# Altium integrated library Infineon_Power_Smart_Low-Side_&_High-Side_Switches.IntLib: 238 symbols (part 1 of 14)
Pins are listed as number, name and electrical type; pins without a type are passive.

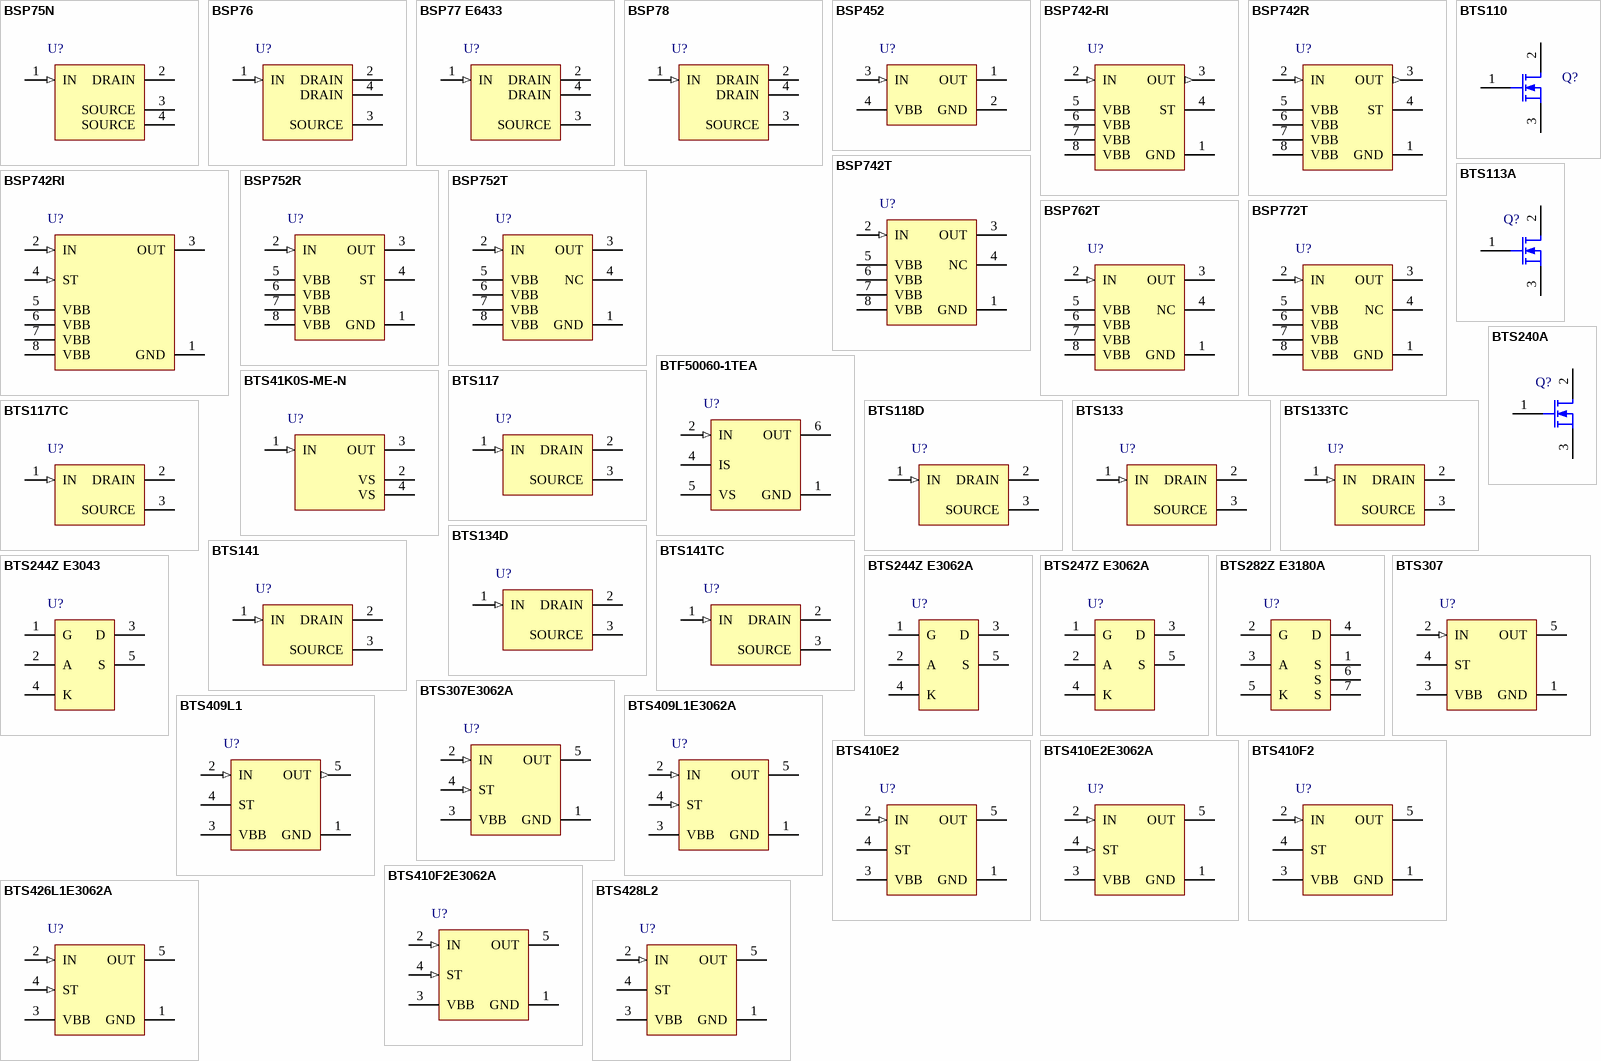
[diagram p0: symbols BSP75N to BTS428L2]

## BSP75N
designator U?
Smart Low-Side Power Switch HITFET, 60 V VDS, 0.7 A ID, -40 to 150 degC, PG-SOT223-SC-73, Reel, Green; Manufacturer: Infineon; PartNumber: BSP75N; Channels: 1; Green: TRUE; ID: 0.7 A; ID(lim) (min): 1 A; Ptot (max): 1.8 W; RDS (on)(max): 550 mOhm; ton (max): 20 us; VDS (max): 60 V; DatasheetVersion: Rev. 1.4; PackageVersion: Apr-08; PackageReference: PG-SOT223 (SC-73); PackageDescription: 4-Pin Small Outline Transistor Package, 6.5 x 3.5 mm Body, 2.3 mm Pitch; Supplier 1: Mouser; Supplier Part Number 1: 726-BSP75N; Supplier 2: Newark; Supplier Part Number 2: 47W3340; Supplier 3: Farnell; Supplier Part Number 3: 2215518; Supplier 4: Digi-Key; Supplier Part Number 4: BSP75N TR-ND; Supplier 5: Digi-Key; Supplier Part Number 5: BSP75N CT-ND; Supplier 6: Digi-Key; Supplier Part Number 6: BSP75N DKR-ND; Group: HITFET; Halogen-free: FALSE; ID(nom): 0.7 A; Packing: Reel; toff (max): 20 us; Mounting Technology: Surface Mount; ComponentLink1Description: Manufacturer URL; ComponentLink1URL: http://www.infineon.com/; ComponentLink2Description: Datasheet; ComponentLink2URL: http://www.infineon.com/dgdl/BSP75N_DS_14.pdf?folderId=db3a3043163797a6011667aa084c0e01&fileId=db3a30431ed1d7b2011f471f5a0256d1&location=en.Products.Automotive_ICs.Smart_High-_and_Low-Side_Switches.HITFET___TEMPFET__-_Smart_Low-Side_Switches.DATASHEET.BSP75N_DS_14.pdf; ComponentLink3Description: Package Specification; ComponentLink3URL: http://www.infineon.com/dgdl/SOT223-Package_Overview.pdf?folderId=db3a30431936bc4b0119530470b03c3d&fileId=db3a30431936bc4b0119531d40b93c5c
footprint INF-PG-SOT223_SC-73_N (SOT223, 4-Leads, Body 6.5x3.5mm, Pitch 2.3mm, IPC Medium Density)
footprint INF-PG-SOT223_SC-73_L (SOT223, 4-Leads, Body 6.5x3.5mm, Pitch 2.3mm, IPC High Density)
footprint INF-PG-SOT223_SC-73_M (SOT223, 4-Leads, Body 6.5x3.5mm, Pitch 2.3mm, IPC Low Density)
pins: 1 IN (in) "Input;activates output and supplies internal logic", 2 DRAIN (power) "Output to the load", 3 SOURCE (power) "Ground;pin3 and TAB are internally connected", 4 SOURCE (power) "Ground;pin3 and TAB are internally connected"

## BSP76
designator U?
Smart Low-Side Power Switch HITFET, 42 V VDS, 1.4 A ID, -40 to 150 degC, PG-SOT223-SC-73, Reel, Green; Manufacturer: Infineon; PartNumber: BSP76; Channels: 1; Green: TRUE; ID: 1.4 A; ID(lim) (min): 5 A; Ptot (max): 3.8 W; RDS (on)(max): 200 mOhm; ton (max): 100 us; VDS (max): 42 V; DatasheetVersion: Rev. 1.3; PackageVersion: Apr-08; PackageReference: PG-SOT223 (SC-73); PackageDescription: 4-Pin Small Outline Transistor Package, 6.5 x 3.5 mm Body, 2.3 mm Pitch; Group: HITFET; Halogen-free: FALSE; ID(nom): 1.4 A; Packing: Reel; toff (max): 100 us; Mounting Technology: Surface Mount; ComponentLink1Description: Manufacturer URL; ComponentLink1URL: http://www.infineon.com/; ComponentLink2Description: Datasheet; ComponentLink2URL: http://www.infineon.com/dgdl/BSP76_DS_13.pdf?folderId=db3a3043163797a6011667aa084c0e01&fileId=db3a3043271faefd01274d00e2695d45&location=en.Products.Automotive_ICs.Smart_High-_and_Low-Side_Switches.HITFET___TEMPFET__-_Smart_Low-Side_Switches.DATASHEET.BSP76_DS_13.pdf; ComponentLink3Description: Package Specification; ComponentLink3URL: http://www.infineon.com/dgdl/SOT223-Package_Overview.pdf?folderId=db3a30431936bc4b0119530470b03c3d&fileId=db3a30431936bc4b0119531d40b93c5c
footprint INF-PG-SOT223_SC-73_N (SOT223, 4-Leads, Body 6.5x3.5mm, Pitch 2.3mm, IPC Medium Density)
footprint INF-PG-SOT223_SC-73_L (SOT223, 4-Leads, Body 6.5x3.5mm, Pitch 2.3mm, IPC High Density)
footprint INF-PG-SOT223_SC-73_M (SOT223, 4-Leads, Body 6.5x3.5mm, Pitch 2.3mm, IPC Low Density)
pins: 1 IN (in), 2 DRAIN (power), 3 SOURCE (power), 4 DRAIN (power)

## BSP77 E6433
designator U?
Smart Low-Side Power Switch HITFET, 42 V VDS, 2.17 A ID, -40 to 150 degC, PG-SOT223 (SC-73), Reel, Green; Manufacturer: Infineon; PartNumber: BSP77 E6433; Channels: 1; Green: TRUE; ID: 2.17 A; ID(lim) (min): 10 A; Ptot (max): 3.8 W; RDS (on)(max): 100 mOhm; ton (max): 100 us; VDS (max): 42 V; DatasheetVersion: Rev. 1.3; PackageVersion: Apr-08; PackageReference: PG-SOT223 (SC-73); PackageDescription: 4-Pin Small Outline Transistor Package, 6.5 x 3.5 mm Body, 2.3 mm Pitch; Supplier 1: Mouser; Supplier Part Number 1: 726-BSP77E6433; Supplier 2: Newark; Supplier Part Number 2: 47W3345; Supplier 3: Farnell; Supplier Part Number 3: 2215505; Supplier 4: Digi-Key; Supplier Part Number 4: BSP77 E6433TR-ND; Supplier 5: Digi-Key; Supplier Part Number 5: BSP77 E6433CT-ND; Supplier 6: Digi-Key; Supplier Part Number 6: BSP77 E6433DKR-ND; Group: HITFET; Halogen-free: FALSE; ID(nom): 2.17 A; Packing: Reel; toff (max): 100 us; Mounting Technology: Surface Mount; ComponentLink1Description: Manufacturer URL; ComponentLink1URL: http://www.infineon.com/; ComponentLink2Description: Datasheet; ComponentLink2URL: http://www.infineon.com/dgdl/BSP77_DS_13.pdf?folderId=db3a3043163797a6011667aa084c0e01&fileId=db3a3043271faefd01274cff04045d40&location=en.Products.Automotive_ICs.Smart_High-_and_Low-Side_Switches.HITFET___TEMPFET__-_Smart_Low-Side_Switches.DATASHEET.BSP77_DS_13.pdf; ComponentLink3Description: Package Specification; ComponentLink3URL: http://www.infineon.com/dgdl/SOT223-Package_Overview.pdf?folderId=db3a30431936bc4b0119530470b03c3d&fileId=db3a30431936bc4b0119531d40b93c5c
footprint INF-PG-SOT223_SC-73_N (SOT223, 4-Leads, Body 6.5x3.5mm, Pitch 2.3mm, IPC Medium Density)
footprint INF-PG-SOT223_SC-73_L (SOT223, 4-Leads, Body 6.5x3.5mm, Pitch 2.3mm, IPC High Density)
footprint INF-PG-SOT223_SC-73_M (SOT223, 4-Leads, Body 6.5x3.5mm, Pitch 2.3mm, IPC Low Density)
pins: 1 IN (in), 2 DRAIN (power), 3 SOURCE (power), 4 DRAIN (power)

## BSP78
designator U?
Smart Low-Side Power Switch HITFET, 42 V VDS, 3 A ID, -40 to 150 degC, PG-SOT223 (SC-73), Reel, Green; Manufacturer: Infineon; PartNumber: BSP78; Channels: 1; Green: TRUE; ID: 3 A; ID(lim) (min): 18 A; Ptot (max): 3.8 W; RDS (on)(max): 50 mOhm; ton (max): 100 us; VDS (max): 42 V; DatasheetVersion: Rev. 1.3; PackageVersion: Apr-08; PackageReference: PG-SOT223 (SC-73); PackageDescription: 4-Pin Small Outline Transistor Package, 6.5 x 3.5 mm Body, 2.3 mm Pitch; Supplier 1: Mouser; Supplier Part Number 1: 726-BSP78; Supplier 2: Newark; Supplier Part Number 2: 47W3347; Supplier 3: Farnell; Supplier Part Number 3: 2215495; Supplier 4: Digi-Key; Supplier Part Number 4: BSP78TR-ND; Supplier 5: Digi-Key; Supplier Part Number 5: BSP78CT-ND; Supplier 6: Digi-Key; Supplier Part Number 6: BSP78DKR-ND; Group: HITFET; Halogen-free: FALSE; ID(nom): 3 A; Packing: Reel; toff (max): 100 us; Mounting Technology: Surface Mount; ComponentLink1Description: Manufacturer URL; ComponentLink1URL: http://www.infineon.com/; ComponentLink2Description: Datasheet; ComponentLink2URL: http://www.infineon.com/dgdl/BSP78_DS_13.pdf?folderId=db3a3043163797a6011667aa084c0e01&fileId=db3a3043271faefd01274cfb41f85d36&location=en.Products.Automotive_ICs.Smart_High-_and_Low-Side_Switches.HITFET___TEMPFET__-_Smart_Low-Side_Switches.DATASHEET.BSP78_DS_13.pdf; ComponentLink3Description: Package Specification; ComponentLink3URL: http://www.infineon.com/dgdl/SOT223-Package_Overview.pdf?folderId=db3a30431936bc4b0119530470b03c3d&fileId=db3a30431936bc4b0119531d40b93c5c
footprint INF-PG-SOT223_SC-73_N (SOT223, 4-Leads, Body 6.5x3.5mm, Pitch 2.3mm, IPC Medium Density)
footprint INF-PG-SOT223_SC-73_L (SOT223, 4-Leads, Body 6.5x3.5mm, Pitch 2.3mm, IPC High Density)
footprint INF-PG-SOT223_SC-73_M (SOT223, 4-Leads, Body 6.5x3.5mm, Pitch 2.3mm, IPC Low Density)
pins: 1 IN (in), 2 DRAIN (power), 3 SOURCE (power), 4 DRAIN (power)

## BSP452
designator U?
Smart High-Side Power Switch, 1 Channel, 0.7 A Load Current, -40 to 150 degC, PG-SOT223_SC-73, Reel, Green; Manufacturer: Infineon; PartNumber: BSP452; Channels: 1; Green: TRUE; Group: Automotive Qualified; Load Current (typ): 0.7 A; Ptot (max): 1.8 W; Recommended Operating Voltage Max.: 34 V; Recommended Operating Voltage Min.: 5 V; RON @ 25degreesC: 200 mOhm; RON(max) @ 150degreesC: 400 mOhm; toff (max): 150 us; ton (max): 100 us; DatasheetVersion: V1.0; PackageVersion: May-07; PackageReference: PG-SOT-223; PackageDescription: 4-Pin Small Outline Transistor Package, 3.5 x 6.5 mm Body, 2.3 mm Pitch; Supplier 1: Mouser; Supplier Part Number 1: 726-BSP452; Supplier 2: Newark; Supplier Part Number 2: 47W3335; Supplier 3: Farnell; Supplier Part Number 3: 2215478; Supplier 4: Digi-Key; Supplier Part Number 4: BSP452TR-ND; Supplier 5: Digi-Key; Supplier Part Number 5: BSP452CT-ND; Supplier 6: Digi-Key; Supplier Part Number 6: BSP452DKR-ND; Halogen-free: FALSE; Packing: Reel; Mounting Technology: Surface Mount; ComponentLink1Description: Manufacturer URL; ComponentLink1URL: http://www.infineon.com/; ComponentLink2Description: Datasheet; ComponentLink2URL: http://www.infineon.com/dgdl/BSP452.pdf?folderId=db3a304314dca389011537739e37155f&fileId=db3a30431b3e89eb011b7eac4d321531&location=en.Products.Automotive_ICs.Smart_High-_and_Low-Side_Switches.PROFET__-_Smart_High_Side_Switches.DATASHEET.BSP452.pdf; ComponentLink3Description: Package Specification; ComponentLink3URL: http://www.infineon.com/dgdl/BSP452.pdf?folderId=db3a304314dca389011537739e37155f&fileId=db3a30431b3e89eb011b7eac4d321531&sId=db3a30433da6ece5013da707896d001d
footprint INF-PG-SOT-223_N (SOT223, 4-Leads, Body 6.5x3.5mm, Pitch 2.3mm, IPC Medium Density)
footprint INF-PG-SOT-223_L (SOT223, 4-Leads, Body 6.5x3.5mm, Pitch 2.3mm, IPC High Density)
footprint INF-PG-SOT-223_M (SOT223, 4-Leads, Body 6.5x3.5mm, Pitch 2.3mm, IPC Low Density)
pins: 1 OUT (power) "Output to the load", 2 GND (power) "Logic ground", 3 IN (in) "Input, activates the power switch in case of logical high signal", 4 VBB (power) "Positive power supply voltage"

## BSP742-RI
designator U?
Smart High-Side-Switch, 1 Channel, 1.2 A Load Current, -40 to 150 degC, PG-DSO-8-24, Reel, Green; Manufacturer: Infineon; PartNumber: BSP742-RI; Channels: 1; Green: TRUE; Group: Automotive Qualified; Load Current (typ): 1.1 A; Ptot (max): 1.5 W; Recommended Operating Voltage Max.: 34 V; Recommended Operating Voltage Min.: 5 V; RON @ 25degreesC: 350 mOhm; RON(max) @ 150degreesC: 700 mOhm; toff (max): 170 us; ton (max): 140 us; DatasheetVersion: V1.1; PackageVersion: May-07; PackageReference: PG-DSO-8-24; PackageDescription: 8-Pin Plastic (Green) Dual Small Outline Package, 4.9 x 3.9 mm Body, 1.27 mm Pitch; Halogen-free: TRUE; Packing: Reel; Mounting Technology: Surface Mount; ComponentLink1Description: Manufacturer URL; ComponentLink1URL: http://www.infineon.com/; ComponentLink2Description: Datasheet; ComponentLink2URL: http://www.infineon.com/dgdl/BSP742RI.pdf?folderId=db3a304314dca389011537739e37155f&fileId=db3a304316f112290116f22466b271a6&location=en.Products.Automotive_ICs.Smart_High-_and_Low-Side_Switches.PROFET__-_Smart_High_Side_Switches.DATASHEET.BSP742RI.pdf; ComponentLink3Description: Package Specification; ComponentLink3URL: http://www.infineon.com/dgdl/BSP742RI.pdf?folderId=db3a304314dca389011537739e37155f&fileId=db3a304316f112290116f22466b271a6&sId=db3a30433d68e984013d83055b4a7981
footprint INF-PG-DSO-8-24_N (SOP, 8-Leads, Body 4.9x3.9mm, Pitch 1.27mm, IPC Medium Density)
footprint INF-PG-DSO-8-24_L (SOP, 8-Leads, Body 4.9x3.9mm, Pitch 1.27mm, IPC High Density)
footprint INF-PG-DSO-8-24_M (SOP, 8-Leads, Body 4.9x3.9mm, Pitch 1.27mm, IPC Low Density)
pins: 1 GND (power) "Logic ground", 2 IN (in) "Input, activates the power switch in case of logic high signal", 3 OUT (out) "Output to the load", 4 ST (oc) "Diagnostic feedback", 5 VBB (power) "Positive power supply voltage", 6 VBB (power) "Positive power supply voltage", 7 VBB (power) "Positive power supply voltage", 8 VBB (power) "Positive power supply voltage"

## BSP742R
designator U?
Smart High-Side Power Switch, 1 Channel, 1.1 A Load Current, -40 to 150 degC, PG-DSO-8-24, Reel, Green; Manufacturer: Infineon; PartNumber: BSP742R; Channels: 1; Green: TRUE; Group: Automotive Qualified; Load Current (typ): 1.1 A; Ptot (max): 1.5 W; Recommended Operating Voltage Max.: 34 V; Recommended Operating Voltage Min.: 5 V; RON @ 25degreesC: 350 mOhm; RON(max) @ 150degreesC: 700 mOhm; toff (max): 170 us; ton (max): 140 us; DatasheetVersion: V1.3; PackageVersion: May-07; PackageReference: PG-DSO-8-24; PackageDescription: 8-Pin Plastic (Green) Dual Small Outline Package, 4.9 x 3.9 mm Body, 1.27 mm Pitch; Supplier 1: Mouser; Supplier Part Number 1: 726-BSP742R; Supplier 2: Newark; Supplier Part Number 2: 47W3337; Supplier 3: Farnell; Supplier Part Number 3: 2215511; Supplier 4: Digi-Key; Supplier Part Number 4: BSP742RTR-ND; Supplier 5: Digi-Key; Supplier Part Number 5: BSP742RCT-ND; Supplier 6: Digi-Key; Supplier Part Number 6: BSP742RDKR-ND; Halogen-free: TRUE; Packing: Reel; Mounting Technology: Surface Mount; ComponentLink1Description: Manufacturer URL; ComponentLink1URL: http://www.infineon.com/; ComponentLink2Description: Datasheet; ComponentLink2URL: http://www.infineon.com/dgdl/BSP742R_GDS_13.pdf?folderId=db3a304314dca389011537739e37155f&fileId=db3a304320d39d5901210fe1d994367c&location=en.Products.Automotive_ICs.Smart_High-_and_Low-Side_Switches.PROFET__-_Smart_High_Side_Switches.DATASHEET.BSP742R_GDS_13.pdf; ComponentLink3Description: Package Specification; ComponentLink3URL: http://www.infineon.com/dgdl/BSP742RI.pdf?folderId=db3a304314dca389011537739e37155f&fileId=db3a304316f112290116f22466b271a6&sId=db3a30433d68e984013d83055b4a7981
footprint INF-PG-DSO-8-24_N (SOP, 8-Leads, Body 4.9x3.9mm, Pitch 1.27mm, IPC Medium Density)
footprint INF-PG-DSO-8-24_L (SOP, 8-Leads, Body 4.9x3.9mm, Pitch 1.27mm, IPC High Density)
footprint INF-PG-DSO-8-24_M (SOP, 8-Leads, Body 4.9x3.9mm, Pitch 1.27mm, IPC Low Density)
pins: 1 GND (power) "Logic ground", 2 IN (in) "Input, activates the power switch in case of logic high signal", 3 OUT (out) "Output to the load", 4 ST (oc) "Diagnostic feedback", 5 VBB (power) "Positive power supply voltage", 6 VBB (power) "Positive power supply voltage", 7 VBB (power) "Positive power supply voltage", 8 VBB (power) "Positive power supply voltage"

## BSP742RI
designator U?
Smart High-Side Power Switch, 5 to 34 V, -40 to 150 degC, PG-DSO-8, Reel, Green; Manufacturer: Infineon; PartNumber: BSP742RI; Channels: 1; Diagnostic: Digital; Green: TRUE; IL (nom)min - all channels active: 0.4 A; IL (SCp): 1.2 A; Ptot (max): 1.5 W; Recommended Operating Voltage Max.: 34 V; Recommended Operating Voltage Min.: 5 V; RON (max) @ Tj: 150degreesC=700 mOhm; RON @ Tj: 25degreesC=350 mOhm; toff (max): 170 us; ton (max): 140 us; DatasheetVersion: Rev. 1.1; PackageVersion: May-07; PackageReference: PG-DSO-8-24; PackageDescription: 8-Pin Plastic (Green) Dual Small Outline Package, 4.9 x 3.9 mm Body, 1.27 mm Pitch; Supplier 1: Digi-Key; Supplier Part Number 1: BSP742RITR-ND; Supplier 2: Digi-Key; Supplier Part Number 2: BSP742RICT-ND; Supplier 3: Digi-Key; Supplier Part Number 3: BSP742RIDKR-ND; Supplier 4: Farnell; Supplier Part Number 4: 2215513; Supplier 5: Newark; Supplier Part Number 5: 47W3338; Supplier 6: Mouser; Supplier Part Number 6: 726-BSP742RI; Halogen-free: TRUE; IL (nom)min - one channel active: 0.4 A; Mounting: SMT; Packing: Reel; Mounting Technology: Surface Mount; ComponentLink1Description: Manufacturer URL; ComponentLink1URL: http://www.infineon.com/; ComponentLink2Description: Datasheet; ComponentLink2URL: http://www.infineon.com/dgdl/BSP742RI.pdf?folderId=db3a304314dca389011537739e37155f&fileId=db3a304316f112290116f22466b271a6; ComponentLink3Description: Package Specification; ComponentLink3URL: http://www.infineon.com/cms/packages/SMD_-_Surface_Mounted_Devices/P-PG-DSO/P-PG-DSO-08-03x_-6x_-7x_-8x_-10x_-13x_-15x_-18x_-19x_-20x_-23.html?__locale=en
footprint INF-PG-DSO-8-24_N (SOP, 8-Leads, Body 4.9x3.9mm, Pitch 1.27mm, IPC Medium Density)
footprint INF-PG-DSO-8-24_L (SOP, 8-Leads, Body 4.9x3.9mm, Pitch 1.27mm, IPC High Density)
footprint INF-PG-DSO-8-24_M (SOP, 8-Leads, Body 4.9x3.9mm, Pitch 1.27mm, IPC Low Density)
pins: 1 GND (power) "Logic ground", 2 IN (in) "Input, activates the power switch in case of logic high sianal", 3 OUT (power) "Output to the load", 4 ST (in) "Diagnostic feedback", 5 VBB (power) "Positive power supply voltage", 6 VBB (power) "Positive power supply voltage", 7 VBB (power) "Positive power supply voltage", 8 VBB (power) "Positive power supply voltage"

## BSP742T
designator U?
Smart High-Side Power Switch, 1 Channel, 1.1 A Load Current, -40 to 150 degC, PG-DSO-8-24, Reel, Green; Manufacturer: Infineon; PartNumber: BSP742T; Channels: 1; Green: TRUE; Group: Automotive Qualified; Load Current (typ): 1.1 A; Ptot (max): 1.5 W; Recommended Operating Voltage Max.: 34 V; Recommended Operating Voltage Min.: 5 V; RON @ 25degreesC: 350 mOhm; RON(max) @ 150degreesC: 700 mOhm; toff (max): 170 us; ton (max): 140 us; DatasheetVersion: V1.1; PackageVersion: May-07; PackageReference: PG-DSO-8-24; PackageDescription: 8-Pin Plastic (Green) Dual Small Outline Package, 4.9 x 3.9 mm Body, 1.27 mm Pitch; Supplier 1: Mouser; Supplier Part Number 1: 726-BSP742T; Supplier 2: Newark; Supplier Part Number 2: 47W3339; Supplier 3: Farnell; Supplier Part Number 3: 2215516; Supplier 4: Digi-Key; Supplier Part Number 4: BSP742TINTR-ND; Supplier 5: Digi-Key; Supplier Part Number 5: BSP742TINCT-ND; Supplier 6: Digi-Key; Supplier Part Number 6: BSP742TINDKR-ND; Halogen-free: TRUE; Packing: Reel; Mounting Technology: Surface Mount; ComponentLink1Description: Manufacturer URL; ComponentLink1URL: http://www.infineon.com/; ComponentLink2Description: Datasheet; ComponentLink2URL: http://www.infineon.com/dgdl/BSP742T.pdf?folderId=db3a304412b407950112b408e8c90004&fileId=db3a30431689f4420116d2efc3000bf7&location=en.Products.Automotive_ICs.Smart_High-_and_Low-Side_Switches.PROFET__-_Smart_High_Side_Switches.DATASHEET.BSP742T.pdf; ComponentLink3Description: Package Specification; ComponentLink3URL: http://www.infineon.com/dgdl/BSP742RI.pdf?folderId=db3a304314dca389011537739e37155f&fileId=db3a304316f112290116f22466b271a6&sId=db3a30433d68e984013d83055b4a7981
footprint INF-PG-DSO-8-24_N (SOP, 8-Leads, Body 4.9x3.9mm, Pitch 1.27mm, IPC Medium Density)
footprint INF-PG-DSO-8-24_L (SOP, 8-Leads, Body 4.9x3.9mm, Pitch 1.27mm, IPC High Density)
footprint INF-PG-DSO-8-24_M (SOP, 8-Leads, Body 4.9x3.9mm, Pitch 1.27mm, IPC Low Density)
pins: 1 GND (power) "Logic ground", 2 IN (in) "Input, activates the power switch in case of logic high signal.", 3 OUT (power) "Output to the load.", 4 NC "Not connected.", 5 VBB (power) "Positive power supply voltage.", 6 VBB (power) "Positive power supply voltage.", 7 VBB (power) "Positive power supply voltage.", 8 VBB (power) "Positive power supply voltage."

## BSP752R
designator U?
Smart High-Side Power Switch, 1 Channel, 1.3 A Load Current, -40 to 150 degC, PG-DSO-8-24, Reel, Green; Manufacturer: Infineon; PartNumber: BSP752R; Channels: 1; Green: TRUE; Group: Automotive Qualified; Load Current (typ): 1.3 A; Ptot (max): 1.5 W; Recommended Operating Voltage Max.: 52 V; Recommended Operating Voltage Min.: 6 V; RON @ 25degreesC: 200 mOhm; RON(max) @ 150degreesC: 380 mOhm; toff (max): 200 us; ton (max): 180 us; DatasheetVersion: V1.1; PackageVersion: May-07; PackageReference: PG-DSO-8-24; PackageDescription: 8-Pin Plastic (Green) Dual Small Outline Package, 4.9 x 3.9 mm Body, 1.27 mm Pitch; Supplier 1: Mouser; Supplier Part Number 1: 726-BSP752R; Supplier 2: Newark; Supplier Part Number 2: 47W3341; Supplier 3: Farnell; Supplier Part Number 3: 2215502; Supplier 4: Digi-Key; Supplier Part Number 4: BSP752RINTR-ND; Supplier 5: Digi-Key; Supplier Part Number 5: BSP752RINCT-ND; Supplier 6: Digi-Key; Supplier Part Number 6: BSP752RINDKR-ND; Halogen-free: TRUE; Packing: Reel; Mounting Technology: Surface Mount; ComponentLink1Description: Manufacturer URL; ComponentLink1URL: http://www.infineon.com/; ComponentLink2Description: Datasheet; ComponentLink2URL: http://www.infineon.com/dgdl/BSP752R_GDS_11.pdf?folderId=db3a304314dca389011537739e37155f&fileId=db3a304316f112290116f233cbd271e9&location=en.Products.Automotive_ICs.Smart_High-_and_Low-Side_Switches.PROFET__-_Smart_High_Side_Switches.DATASHEET.BSP752R_GDS_11.pdf; ComponentLink3Description: Package Specification; ComponentLink3URL: http://www.infineon.com/dgdl/BSP742RI.pdf?folderId=db3a304314dca389011537739e37155f&fileId=db3a304316f112290116f22466b271a6&sId=db3a30433d68e984013d83055b4a7981
footprint INF-PG-DSO-8-24_N (SOP, 8-Leads, Body 4.9x3.9mm, Pitch 1.27mm, IPC Medium Density)
footprint INF-PG-DSO-8-24_L (SOP, 8-Leads, Body 4.9x3.9mm, Pitch 1.27mm, IPC High Density)
footprint INF-PG-DSO-8-24_M (SOP, 8-Leads, Body 4.9x3.9mm, Pitch 1.27mm, IPC Low Density)
pins: 1 GND (power) "Logic ground", 2 IN (in) "Input, activates the power switch in case of logic high signal.", 3 OUT (power) "Output to the load.", 4 ST (oc) "Diagnostic feedback.", 5 VBB (power) "Positive power supply voltage.", 6 VBB (power) "Positive power supply voltage.", 7 VBB (power) "Positive power supply voltage.", 8 VBB (power) "Positive power supply voltage."

## BSP752T
designator U?
Smart High-Side Power Switch, 1 Channel, 1.3 A Load Current, -40 to 150 degC, PG-DSO-8-24, Reel, Green; Manufacturer: Infineon; PartNumber: BSP752T; Channels: 1; Green: TRUE; Group: Automotive Qualified; Load Current (typ): 1.3 A; Ptot (max): 1.5 W; Recommended Operating Voltage Max.: 52 V; Recommended Operating Voltage Min.: 6 V; RON @ 25degreesC: 200 mOhm; RON(max) @ 150degreesC: 380 mOhm; toff (max): 200 us; ton (max): 180 us; DatasheetVersion: Rev. 1.1; PackageVersion: May-07; PackageReference: PG-DSO-8-24; PackageDescription: 8-Pin Plastic (Green) Dual Small Outline Package, 4.9 x 3.9 mm Body, 1.27 mm Pitch; Supplier 1: Mouser; Supplier Part Number 1: 726-BSP752T; Supplier 2: Newark; Supplier Part Number 2: 47W3342; Supplier 3: Farnell; Supplier Part Number 3: 2215508; Supplier 4: Digi-Key; Supplier Part Number 4: BSP752TTR-ND; Supplier 5: Digi-Key; Supplier Part Number 5: BSP752TCT-ND; Supplier 6: Digi-Key; Supplier Part Number 6: BSP752TDKR-ND; Halogen-free: TRUE; Packing: Reel; Mounting Technology: Surface Mount; ComponentLink1Description: Manufacturer URL; ComponentLink1URL: http://www.infineon.com/; ComponentLink2Description: Datasheet; ComponentLink2URL: http://www.infineon.com/dgdl/BSP752T.pdf?folderId=db3a304314dca389011537739e37155f&fileId=db3a304316f112290116f228776b71bf&location=en.Products.Automotive_ICs.Smart_High-_and_Low-Side_Switches.PROFET__-_Smart_High_Side_Switches.DATASHEET.BSP752T.pdf; ComponentLink3Description: Package Specification; ComponentLink3URL: http://www.infineon.com/dgdl/BSP742RI.pdf?folderId=db3a304314dca389011537739e37155f&fileId=db3a304316f112290116f22466b271a6&sId=db3a30433d68e984013d83055b4a7981
footprint INF-PG-DSO-8-24_N (SOP, 8-Leads, Body 4.9x3.9mm, Pitch 1.27mm, IPC Medium Density)
footprint INF-PG-DSO-8-24_L (SOP, 8-Leads, Body 4.9x3.9mm, Pitch 1.27mm, IPC High Density)
footprint INF-PG-DSO-8-24_M (SOP, 8-Leads, Body 4.9x3.9mm, Pitch 1.27mm, IPC Low Density)
pins: 1 GND (power) "Logic ground", 2 IN (in) "Input, activates the power switch in case of logic high signal.", 3 OUT (power) "Output to the load.", 4 NC "Not connected.", 5 VBB (power) "Positive power supply voltage.", 6 VBB (power) "Positive power supply voltage.", 7 VBB (power) "Positive power supply voltage.", 8 VBB (power) "Positive power supply voltage."

## BSP762T
designator U?
Smart Power High-Side-Switch, 1 Channel, 2.4 A Load Current, -40 to 150 degC, PG-DSO-8-24, Reel, Green; Manufacturer: Infineon; PartNumber: BSP762T; Channels: 1; Green: TRUE; Group: Automotive Qualified; Load Current (typ): 2.4 A; Ptot (max): 1.5 W; Recommended Operating Voltage Max.: 34 V; Recommended Operating Voltage Min.: 5 V; RON @ 25degreesC: 100 mOhm; RON(max) @ 150degreesC: 200 mOhm; toff (max): 230 us; ton (max): 170 us; DatasheetVersion: Rev. 1.1; PackageVersion: May-07; PackageReference: PG-DSO-8-24; PackageDescription: 8-Pin Plastic (Green) Dual Small Outline Package, 4.9 x 3.9 mm Body, 1.27 mm Pitch; Supplier 1: Mouser; Supplier Part Number 1: 726-BSP762TX; Supplier 2: Newark; Supplier Part Number 2: 47W3344; Supplier 3: Farnell; Supplier Part Number 3: 2215493; Supplier 4: Digi-Key; Supplier Part Number 4: BSP762TINTR-ND; Supplier 5: Digi-Key; Supplier Part Number 5: BSP762TINCT-ND; Supplier 6: Digi-Key; Supplier Part Number 6: BSP762TINDKR-ND; Halogen-free: TRUE; Packing: Reel; Mounting Technology: Surface Mount; ComponentLink1Description: Manufacturer URL; ComponentLink1URL: http://www.infineon.com/; ComponentLink2Description: Datasheet; ComponentLink2URL: http://www.infineon.com/dgdl/BSP762T.pdf?folderId=db3a304314dca389011537739e37155f&fileId=db3a30431b3e89eb011b7e914c4c14f4&location=en.Products.Automotive_ICs.Smart_High-_and_Low-Side_Switches.PROFET__-_Smart_High_Side_Switches.DATASHEET.BSP762T.pdf; ComponentLink3Description: Package Specification; ComponentLink3URL: http://www.infineon.com/dgdl/BSP742RI.pdf?folderId=db3a304314dca389011537739e37155f&fileId=db3a304316f112290116f22466b271a6&sId=db3a30433d68e984013d83055b4a7981
footprint INF-PG-DSO-8-24_N (SOP, 8-Leads, Body 4.9x3.9mm, Pitch 1.27mm, IPC Medium Density)
footprint INF-PG-DSO-8-24_L (SOP, 8-Leads, Body 4.9x3.9mm, Pitch 1.27mm, IPC High Density)
footprint INF-PG-DSO-8-24_M (SOP, 8-Leads, Body 4.9x3.9mm, Pitch 1.27mm, IPC Low Density)
pins: 1 GND (power) "Logic ground", 2 IN (in) "Input, activates the power switch in case of logic high signal.", 3 OUT (power) "Output to the load.", 4 NC "Not connected.", 5 VBB (power) "Positive power supply voltage.", 6 VBB (power) "Positive power supply voltage.", 7 VBB (power) "Positive power supply voltage.", 8 VBB (power) "Positive power supply voltage."

## BSP772T
designator U?
Smart Power High-Side-Switch, 1 Channel, 3.1 A Load Current, -40 to 150 degC, PG-DSO-8-24, Reel, Green; Manufacturer: Infineon; PartNumber: BSP772T; Channels: 1; Green: TRUE; Group: Automotive Qualified; Load Current (typ): 3.1 A; Ptot (max): 1.5 W; Recommended Operating Voltage Max.: 34 V; Recommended Operating Voltage Min.: 5 V; RON @ 25degreesC: 60 mOhm; RON(max) @ 150degreesC: 120 mOhm; toff (max): 230 us; ton (max): 180 us; DatasheetVersion: Rev. 1.1; PackageVersion: May-07; PackageReference: PG-DSO-8-24; PackageDescription: 8-Pin Plastic (Green) Dual Small Outline Package, 4.9 x 3.9 mm Body, 1.27 mm Pitch; Supplier 1: Mouser; Supplier Part Number 1: 726-BSP772T; Supplier 2: Newark; Supplier Part Number 2: 47W3346; Supplier 3: Farnell; Supplier Part Number 3: 2215486; Supplier 4: Digi-Key; Supplier Part Number 4: BSP772TINTR-ND; Supplier 5: Digi-Key; Supplier Part Number 5: BSP772TINCT-ND; Supplier 6: Digi-Key; Supplier Part Number 6: BSP772TINDKR-ND; Halogen-free: TRUE; Packing: Reel; Mounting Technology: Surface Mount; ComponentLink1Description: Manufacturer URL; ComponentLink1URL: http://www.infineon.com/; ComponentLink2Description: Datasheet; ComponentLink2URL: http://www.infineon.com/dgdl/BSP772T.pdf?folderId=db3a304314dca389011537739e37155f&fileId=db3a304316f112290116f2395afb71fc&location=en.Products.Automotive_ICs.Smart_High-_and_Low-Side_Switches.PROFET__-_Smart_High_Side_Switches.DATASHEET.BSP772T.pdf; ComponentLink3Description: Package Specification; ComponentLink3URL: http://www.infineon.com/dgdl/BSP742RI.pdf?folderId=db3a304314dca389011537739e37155f&fileId=db3a304316f112290116f22466b271a6&sId=db3a30433d68e984013d83055b4a7981
footprint INF-PG-DSO-8-24_N (SOP, 8-Leads, Body 4.9x3.9mm, Pitch 1.27mm, IPC Medium Density)
footprint INF-PG-DSO-8-24_L (SOP, 8-Leads, Body 4.9x3.9mm, Pitch 1.27mm, IPC High Density)
footprint INF-PG-DSO-8-24_M (SOP, 8-Leads, Body 4.9x3.9mm, Pitch 1.27mm, IPC Low Density)
pins: 1 GND (power) "Logic ground", 2 IN (in) "Input, activates the power switch in case of logic high signal.", 3 OUT (power) "Output to the load.", 4 NC "Not connected.", 5 VBB (power) "Positive power supply voltage.", 6 VBB (power) "Positive power supply voltage.", 7 VBB (power) "Positive power supply voltage.", 8 VBB (power) "Positive power supply voltage."

## BTF50060-1TEA
designator U?
Smart High-Side Power Switch, High PWM Frequencies, 1 Channel, 16.5 A Load Current, -40 to 150 degC, PG-TO252-5-11, Reel, Green; Manufacturer: Infineon; PartNumber: BTF50060-1TEA; Channels: 1; Green: TRUE; Group: Automotive Qualified; Load Current (typ): 16.5 A; Recommended Operating Voltage Max.: 28 V; Recommended Operating Voltage Min.: 4.7 V; RON @ 25degreesC: 6 mOhm; RON(max) @ 150degreesC: 12 mOhm; toff (max): 1.5 us; ton (max): 1 us; DatasheetVersion: Rev 1.2; PackageVersion: Sep-11; PackageReference: PG-TO252-5-11; PackageDescription: 5-Pin Plastic (Green) Transistor Single Outline Package, 6.5 x 6.12 mm Body, 1.14 mm Pitch; Supplier 1: Mouser; Supplier Part Number 1: 726-BTF50060-1TEA; Supplier 2: Digi-Key; Supplier Part Number 2: BTF50060-1TEA-ND; Halogen-free: TRUE; Packing: Reel; Mounting Technology: Surface Mount; ComponentLink1Description: Manufacturer URL; ComponentLink1URL: http://www.infineon.com/; ComponentLink2Description: Datasheet; ComponentLink2URL: http://www.infineon.com/dgdl/BTF50060-1TEA_DS_v12_2011-09-01.pdf?folderId=db3a304314dca389011537739e37155f&fileId=db3a30432ad629a6012b0a94d88d3f2e&location=en.Products.Automotive_ICs.Smart_High-_and_Low-Side_Switches.PROFET__-_Smart_High_Side_Switches.DATASHEET.BTF50060-1TEA_DS_v12_2011-09-01.pdf; ComponentLink3Description: Package Specification; ComponentLink3URL: http://www.infineon.com/dgdl/BTF50060-1TEA_DS_v12_2011-09-01.pdf?folderId=db3a304314dca389011537739e37155f&fileId=db3a30432ad629a6012b0a94d88d3f2e&sId=db3a30433db6f09f013dc356c9f93bd9
footprint INF-PG-TO252-5_BTF50060_N (DPAK, 5-Leads, Body 6.5x6.12mm, Pitch 1.14mm, IPC Medium Density)
footprint INF-PG-TO252-5_BTF50060_L (DPAK, 5-Leads, Body 6.5x6.12mm, Pitch 1.14mm, IPC High Density)
footprint INF-PG-TO252-5_BTF50060_M (DPAK, 5-Leads, Body 6.5x6.12mm, Pitch 1.14mm, IPC Low Density)
pins: 1 GND (power) "Ground; Ground connection for control chip.", 2 IN (in) "Input; Digital 3.3 V and 5 V compatible logic input; activates power switch if set to HIGH level; Includes internal pull-down resistor RIN.", 4 IS (hiz) "Sense; Provides analog sense current signal and defined fault signal.", 5 VS (power) "Supply Voltage; Positive Supply Voltage for Logic and Power Stage.", 6 OUT (power) "Output; Protected high side power output."

## BTS41K0S-ME-N
designator U?
Smart High-Side NMOS-Power Switch, 4.9 to 45 V, -40 to 150 degC, PG-SOT223, Reel, Green; Manufacturer: Infineon; PartNumber: BTS41K0S-ME-N; Channels: 1; Green: TRUE; IL (SCp): 0.9 A; Load Current (typ): 0.2 A; Packing: Tape and Reel; Ptot (max): 1.7 W; Recommended Operating Voltage Max.: 45 V; Recommended Operating Voltage Min.: 4.9 V; RON (max) @ Tj: 150degreesC=3,000 mOhm; RON @ Tj: 25degreesC=1500 mOhm; toff (max): 140 us; ton (max): 100 us; DatasheetVersion: Rev. 1.1; PackageVersion: Apr-08; PackageReference: PG-SOT223_SC-73; PackageDescription: 4-Pin Small Outline Transistor Package, 6.5 x 3.5 mm Body, 2.3 mm Pitch; Supplier 1: Digi-Key; Supplier Part Number 1: BTS41K0S-ME-NTR-ND; Supplier 2: Digi-Key; Supplier Part Number 2: BTS41K0S-ME-NCT-ND; Supplier 3: Digi-Key; Supplier Part Number 3: BTS41K0S-ME-NDKR-ND; Mounting: SMT; Mounting Technology: Surface Mount; ComponentLink1Description: Manufacturer URL; ComponentLink1URL: http://www.infineon.com/; ComponentLink2Description: Datasheet; ComponentLink2URL: http://www.infineon.com/dgdl/BTS41k0S-ME-N_20120508.pdf?folderId=db3a30431400ef68011421b54e2e0564&fileId=5546d461454603990145893b13b54306; ComponentLink3Description: Package Specification; ComponentLink3URL: http://www.infineon.com/dgdl/SOT223-Package_Overview.pdf?folderId=db3a30431936bc4b0119530470b03c3d&fileId=db3a30431936bc4b0119531d40b93c5c
footprint INF-PG-SOT223_SC-73_N (SOT223, 4-Leads, Body 6.5x3.5mm, Pitch 2.3mm, IPC Medium Density)
footprint INF-PG-SOT223_SC-73_L (SOT223, 4-Leads, Body 6.5x3.5mm, Pitch 2.3mm, IPC High Density)
footprint INF-PG-SOT223_SC-73_M (SOT223, 4-Leads, Body 6.5x3.5mm, Pitch 2.3mm, IPC Low Density)
pins: 1 IN (in) "Input, activates the power switch in case of connection to GND", 2 VS (power) "Supply voltage", 3 OUT (power) "Output to the load", 4 VS (power) "Supply voltage"

## BTS110
designator Q?
TEMPFET BTS 110, 100 V VDS, 1.75 A ID, -55 to 150 degC, PG-TO-220AB, Tube; Manufacturer: Infineon; PartNumber: BTS110; Channels: 1; Green: FALSE; ID: 10 A; ID(nom): 1.75 A; ISC (max): 37 A; Ptot (max): 40 W; toff (max): 0.16 us; ton (max): 0.1 us; VDS (max): 100 V; PackageVersion: Feb-04; PackageReference: PG-TO-220AB; PackageDescription: 3-Pin Plastic (Green) Transistor Single Outline Package, 9.9 x 9.2 mm Body, 2.54 mm Pitch; Supplier 1: Mouser; Supplier Part Number 1: 726-BTS110; Supplier 2: Digi-Key; Supplier Part Number 2: BTS110-ND; Group: TEMPFET; Halogen-free: FALSE; Packing: Tube; Mounting Technology: Through Hole; ComponentLink1Description: Manufacturer URL; ComponentLink1URL: http://www.infineon.com/; ComponentLink2Description: Datasheet; ComponentLink2URL: http://www.infineon.com/dgdl/bts110.pdf?folderId=db3a304412b407950112b43583c16310&fileId=db3a304412b407950112b43584326311&location=en.Products.Automotive_ICs.Smart_High-_and_Low-Side_Switches.HITFET___TEMPFET__-_Smart_Low-Side_Switches.DATASHEET.bts110.pdf; ComponentLink3Description: Package Specification; ComponentLink3URL: http://www.infineon.com/dgdl/bts110.pdf?folderId=db3a304412b407950112b43583c16310&fileId=db3a304412b407950112b43584326311&sId=db3a30443e3c704d013e4eb6657a2604
footprint INF-PG-TO-220AB (FM, 3-Leads, Body 9.9x4.4mm, Pitch 2.54mm)
pins: 1 G, 2 D, 3 S

## BTS113A
designator Q?
TEMPFET BTS 113 A, 60 V VDS, 2.2 A ID, -55 to 150 degC, PG-TO-220AB, Tube; Manufacturer: Infineon; Channels: 1; Green: FALSE; ID: 11.5 A; ID(nom): 2.2 A; ISC (max): 27 A; Ptot (max): 40 W; toff (max): 0.12 us; ton (max): 0.11 us; VDS (max): 60 V; PackageVersion: Feb-04; PackageReference: PG-TO-220AB; PackageDescription: 3-Pin Plastic (Green) Transistor Single Outline Package, 9.9 x 9.2 mm Body, 2.54 mm Pitch; Supplier 1: Mouser; Supplier Part Number 1: 726-BTS113A; Supplier 2: Digi-Key; Supplier Part Number 2: BTS113A-ND; Group: TEMPFET; Halogen-free: FALSE; Packing: Tube; Mounting Technology: Through Hole; PartNumber: BTS113A; ComponentLink1Description: Manufacturer URL; ComponentLink1URL: http://www.infineon.com/; ComponentLink2Description: Datasheet; ComponentLink2URL: http://www.infineon.com/dgdl/bts113a.pdf?folderId=db3a304412b407950112b43588b8631a&fileId=db3a304412b407950112b4358934631b&location=en.Products.Automotive_ICs.Smart_High-_and_Low-Side_Switches.HITFET___TEMPFET__-_Smart_Low-Side_Switches.DATASHEET.bts113a.pdf; ComponentLink3Description: Package Specification; ComponentLink3URL: http://www.infineon.com/dgdl/bts110.pdf?folderId=db3a304412b407950112b43583c16310&fileId=db3a304412b407950112b43584326311&sId=db3a30443e3c704d013e4eb6657a2604
footprint INF-PG-TO-220AB (FM, 3-Leads, Body 9.9x4.4mm, Pitch 2.54mm)
pins: 1 G, 2 D, 3 S

## BTS117
designator U?
Smart Low-Side Power Switch HITFET, 60 V VDS, 3.5 A ID, -40 to 150 degC, PG-TO220-3-1, Tube, Green; Manufacturer: Infineon; PartNumber: BTS117; Channels: 1; Green: TRUE; ID: 3.5 A; ID(lim) (min): 7 A; ISC (max): 25 A; Ptot (max): 50 W; RDS (on)(max): 100 mOhm; ton (max): 70 us; toff (max): 150 us; VDS (max): 60 V; DatasheetVersion: Rev. 1.4; PackageVersion: Jul-12; PackageReference: PG-TO220-3-1; PackageDescription: 3-Pin Plastic (Green) Transistor Single Outline Package, 10 x 9.25 mm Body, 2.54 mm Pitch; Supplier 1: Mouser; Supplier Part Number 1: 726-BTS117; Supplier 2: Digi-Key; Supplier Part Number 2: BTS117IN-ND; Group: HITFET; Halogen-free: FALSE; ID(nom): 3.5 A; Packing: Tube; Mounting Technology: Through Hole; ComponentLink1Description: Manufacturer URL; ComponentLink1URL: http://www.infineon.com/; ComponentLink2Description: Datasheet; ComponentLink2URL: http://www.infineon.com/dgdl/BTS117_DS_14.pdf?folderId=db3a30431400ef68011421b54e2e0564&fileId=db3a30433a747525013abff8302d549c&location=en.Products.Automotive_ICs.Smart_High-_and_Low-Side_Switches.HITFET___TEMPFET__-_Smart_Low-Side_Switches.DATASHEET.BTS117_DS_14.pdf; ComponentLink3Description: Package Specification; ComponentLink3URL: http://www.infineon.com/dgdl/BTS117_DS_14.pdf?folderId=db3a30431400ef68011421b54e2e0564&fileId=db3a30433a747525013abff8302d549c&location=en.Products.Automotive_ICs.Smart_High-_and_Low-Side_Switches.HITFET___TEMPFET__-_Smart_Low-Side_Switches.DATASHEET.BTS117_DS_14.pdf
footprint INF-PG-TO220-3-1 (FM, 3-Leads, Body 10x4.4mm, Pitch 2.54mm)
pins: 1 IN (in), 2 DRAIN (power), 3 SOURCE (power)

## BTS117TC
designator U?
Smart Low-Side Power Switch HITFET, 60 V VDS, 3.5 A ID, -40 to 150 degC, PG-TO263-3-2, Reel, Green; Manufacturer: Infineon; PartNumber: BTS117TC; Channels: 1; Green: TRUE; ID: 3.5 A; ID(lim) (min): 7 A; ISC (max): 25 A; Ptot (max): 50 mW; RDS (on)(max): 100 mOhm; ton (max): 70 us; toff (max): 150 us; VDS (max): 60 V; DatasheetVersion: Rev. 1.0; PackageVersion: Jul-09; PackageReference: PG-TO263-3-2; PackageDescription: 3-Pin Plastic (Green) Transistor Single Outline Package, 10 x 9.25 mm Body, 2.54 mm Pitch; Supplier 1: Mouser; Supplier Part Number 1: 726-BTS117TC; Supplier 2: Newark; Supplier Part Number 2: 78X4821; Supplier 3: Farnell; Supplier Part Number 3: 2432479; Supplier 4: Digi-Key; Supplier Part Number 4: BTS117TCTR-ND; Supplier 5: Digi-Key; Supplier Part Number 5: BTS117TCCT-ND; Supplier 6: Digi-Key; Supplier Part Number 6: BTS117TCDKR-ND; Group: HITFET; Halogen-free: FALSE; ID(nom): 3.5 A; Packing: Reel; Mounting Technology: Surface Mount; ComponentLink1Description: Manufacturer URL; ComponentLink1URL: http://www.infineon.com/; ComponentLink2Description: Datasheet; ComponentLink2URL: http://www.infineon.com/dgdl/BTS117TC_DS_10.pdf?folderId=db3a3043163797a6011667aa084c0e01&fileId=db3a3043242ebc9e01242f3d87500018&location=en.Products.Automotive_ICs.Smart_High-_and_Low-Side_Switches.HITFET___TEMPFET__-_Smart_Low-Side_Switches.DATASHEET.BTS117TC_DS_10.pdf; ComponentLink3Description: Package Specification; ComponentLink3URL: http://www.infineon.com/dgdl/BTS141TC_DS_10.pdf?folderId=db3a3043163797a6011667aa084c0e01&fileId=db3a3043242ebc9e01242f43f58b003e&location=en.Products.Automotive_ICs.Smart_High-_and_Low-Side_Switches.HITFET___TEMPFET__-_Smart_Low-Side_Switches.DATASHEET.BTS141TC_DS_10.pdf
footprint INF-PG-TO263-3-2_N (DPAK, 3-Leads, Body 10x9.25mm, Pitch 2.54mm, IPC Medium Density)
footprint INF-PG-TO263-3-2_L (DPAK, 3-Leads, Body 10x9.25mm, Pitch 2.54mm, IPC High Density)
footprint INF-PG-TO263-3-2_M (DPAK, 3-Leads, Body 10x9.25mm, Pitch 2.54mm, IPC Low Density)
pins: 1 IN (in), 2 DRAIN (power), 3 SOURCE (power)

## BTS118D
designator U?
Smart Low-Side Power Switch Power HITFET, 42 V VDS, 2.4 A ID, -40 to 150 degC, PG-TO252-3-11, Reel, Green; Manufacturer: Infineon; PartNumber: BTS118D; Channels: 1; Green: TRUE; ID: 2.4 A; ID(lim) (min): 10 A; Ptot (max): 21 W; RDS (on)(max): 100 mOhm; ton (max): 100 us; VDS (max): 42 V; DatasheetVersion: Rev. 1.3; PackageVersion: Dec-06; PackageReference: PG-TO252-3-11; PackageDescription: 3-Pin Plastic (Green) Transistor Single Outline Package, 6.5 x 6.12 mm Body, 2.28 mm Pitch; Supplier 1: Mouser; Supplier Part Number 1: 726-BTS118D; Supplier 2: Newark; Supplier Part Number 2: 78X4822; Supplier 3: Farnell; Supplier Part Number 3: 2432480; Supplier 4: Digi-Key; Supplier Part Number 4: BTS118DTR-ND; Supplier 5: Digi-Key; Supplier Part Number 5: BTS118DCT-ND; Supplier 6: Digi-Key; Supplier Part Number 6: BTS118DDKR-ND; Group: HITFET; Halogen-free: FALSE; ID(nom): 2.4 A; Packing: Reel; toff (max): 100 us; Mounting Technology: Surface Mount; ComponentLink1Description: Manufacturer URL; ComponentLink1URL: http://www.infineon.com/; ComponentLink2Description: Datasheet; ComponentLink2URL: http://www.infineon.com/dgdl/BTS118_DS_13.pdf?folderId=db3a3043163797a6011667aa084c0e01&fileId=db3a3043163797a6011667bbbe4f0e4b&location=en.Products.Automotive_ICs.Smart_High-_and_Low-Side_Switches.HITFET___TEMPFET__-_Smart_Low-Side_Switches.DATASHEET.BTS118_DS_13.pdf; ComponentLink3Description: Package Specification; ComponentLink3URL: http://www.infineon.com/dgdl/BTS142_DS_13.pdf?folderId=db3a3043163797a6011667aa084c0e01&fileId=db3a3043163797a6011667ac98be0e02&location=en.Products.Automotive_ICs.Smart_High-_and_Low-Side_Switches.HITFET___TEMPFET__-_Smart_Low-Side_Switches.DATASHEET.BTS142_DS_13.pdf
footprint INF-PG-TO252-3-11_N (DPAK, 3-Leads, Body 6.5x6.12mm, Pitch 2.28mm, IPC Medium Density)
footprint INF-PG-TO252-3-11_L (DPAK, 3-Leads, Body 6.5x6.12mm, Pitch 2.28mm, IPC High Density)
footprint INF-PG-TO252-3-11_M (DPAK, 3-Leads, Body 6.5x6.12mm, Pitch 2.28mm, IPC Low Density)
pins: 1 IN (in), 2 DRAIN (power), 3 SOURCE (power)

## BTS133
designator U?
Smart Low-Side Power Switch HITFET, 60 V VDS, 7 A ID, -40 to 150 degC, PG-TO220-3-1, Tube, Green; Manufacturer: Infineon; PartNumber: BTS133; Channels: 1; Green: TRUE; ID: 7 A; ID(nom): 3.8 A; ID(lim) (min): 21 A; ISC (max): 64 A; Ptot (max): 90 W; RDS (on)(max): 50 mOhm; ton (max): 100 us; toff (max): 170 us; VDS (max): 60 V; DatasheetVersion: Rev. 1.4; PackageVersion: Jul-12; PackageReference: PG-TO220-3-1; PackageDescription: 3-Pin Plastic (Green) Transistor Single Outline Package, 10 x 9.25 mm Body, 2.54 mm Pitch; Supplier 1: Mouser; Supplier Part Number 1: 726-BTS133; Supplier 2: Digi-Key; Supplier Part Number 2: BTS133IN-ND; Group: HITFET; Halogen-free: FALSE; Packing: Tube; Mounting Technology: Through Hole; ComponentLink1Description: Manufacturer URL; ComponentLink1URL: http://www.infineon.com/; ComponentLink2Description: Datasheet; ComponentLink2URL: http://www.infineon.com/dgdl/BTS133_DS_14.pdf?folderId=db3a30431400ef68011421b54e2e0564&fileId=db3a30433a747525013ac00072f254c6&location=en.Products.Automotive_ICs.Smart_High-_and_Low-Side_Switches.HITFET___TEMPFET__-_Smart_Low-Side_Switches.DATASHEET.BTS133_DS_14.pdf; ComponentLink3Description: Package Specification; ComponentLink3URL: http://www.infineon.com/dgdl/BTS117_DS_14.pdf?folderId=db3a30431400ef68011421b54e2e0564&fileId=db3a30433a747525013abff8302d549c&location=en.Products.Automotive_ICs.Smart_High-_and_Low-Side_Switches.HITFET___TEMPFET__-_Smart_Low-Side_Switches.DATASHEET.BTS117_DS_14.pdf
footprint INF-PG-TO220-3-1 (FM, 3-Leads, Body 10x4.4mm, Pitch 2.54mm)
pins: 1 IN (in), 2 DRAIN (power), 3 SOURCE (power)

## BTS133TC
designator U?
Smart Low-Side Power Switch HITFET, 60 V VDS, 7 A ID, -40 to 150 degC, PG-TO263-3-2, Reel, Green; Manufacturer: Infineon; PartNumber: BTS133TC; Channels: 1; Green: TRUE; ID: 7 A; ID(nom): 3.8 A; ID(lim) (min): 21 A; ISC (max): 64 A; Ptot (max): 90 mW; RDS (on)(max): 50 mOhm; ton (max): 100 us; toff (max): 170 us; VDS (max): 60 V; DatasheetVersion: Rev. 1.0; PackageVersion: Jul-09; PackageReference: PG-TO263-3-2; PackageDescription: 3-Pin Plastic (Green) Transistor Single Outline Package, 10 x 9.25 mm Body, 2.54 mm Pitch; Supplier 1: Mouser; Supplier Part Number 1: 726-BTS133TC; Supplier 2: Newark; Supplier Part Number 2: 78X4823; Supplier 3: Farnell; Supplier Part Number 3: 2432481; Supplier 4: Digi-Key; Supplier Part Number 4: BTS133TCTR-ND; Supplier 5: Digi-Key; Supplier Part Number 5: BTS133TCCT-ND; Supplier 6: Digi-Key; Supplier Part Number 6: BTS133TCDKR-ND; Group: HITFET; Halogen-free: FALSE; Packing: Reel; Mounting Technology: Surface Mount; ComponentLink1Description: Manufacturer URL; ComponentLink1URL: http://www.infineon.com/; ComponentLink2Description: Datasheet; ComponentLink2URL: http://www.infineon.com/dgdl/BTS133TC_DS_10.pdf?folderId=db3a304412b407950112b434dac161e7&fileId=db3a3043242ebc9e01242f40dc3f002b&location=en.Products.Automotive_ICs.Smart_High-_and_Low-Side_Switches.HITFET___TEMPFET__-_Smart_Low-Side_Switches.DATASHEET.BTS133TC_DS_10.pdf; ComponentLink3Description: Package Specification; ComponentLink3URL: http://www.infineon.com/dgdl/BTS141TC_DS_10.pdf?folderId=db3a3043163797a6011667aa084c0e01&fileId=db3a3043242ebc9e01242f43f58b003e&location=en.Products.Automotive_ICs.Smart_High-_and_Low-Side_Switches.HITFET___TEMPFET__-_Smart_Low-Side_Switches.DATASHEET.BTS141TC_DS_10.pdf
footprint INF-PG-TO263-3-2_N (DPAK, 3-Leads, Body 10x9.25mm, Pitch 2.54mm, IPC Medium Density)
footprint INF-PG-TO263-3-2_L (DPAK, 3-Leads, Body 10x9.25mm, Pitch 2.54mm, IPC High Density)
footprint INF-PG-TO263-3-2_M (DPAK, 3-Leads, Body 10x9.25mm, Pitch 2.54mm, IPC Low Density)
pins: 1 IN (in), 2 DRAIN (power), 3 SOURCE (power)

## BTS134D
designator U?
Smart Low-Side Power Switch HITFET, 42 V VDS, 3.5 A ID, -40 to 150 degC, PG-TO252-3-11, Reel, Green; Manufacturer: Infineon; PartNumber: BTS134D; Channels: 1; Green: TRUE; ID: 3.5 A; ID(lim) (min): 18 A; Ptot (max): 43 W; RDS (on)(max): 50 mOhm; ton (max): 100 us; VDS (max): 42 V; DatasheetVersion: Rev. 1.3; PackageVersion: Dec-06; PackageReference: PG-TO252-3-11; PackageDescription: 3-Pin Plastic (Green) Transistor Single Outline Package, 6.5 x 6.12 mm Body, 2.28 mm Pitch; Supplier 1: Mouser; Supplier Part Number 1: 726-BTS134D; Supplier 2: Newark; Supplier Part Number 2: 47W3381; Supplier 3: Farnell; Supplier Part Number 3: 2215510; Supplier 4: Digi-Key; Supplier Part Number 4: BTS134DTR-ND; Supplier 5: Digi-Key; Supplier Part Number 5: BTS134DCT-ND; Supplier 6: Digi-Key; Supplier Part Number 6: BTS134DDKR-ND; Group: HITFET; Halogen-free: TRUE; ID(nom): 3.5 A; Packing: Reel; toff (max): 100 us; Mounting Technology: Surface Mount; ComponentLink1Description: Manufacturer URL; ComponentLink1URL: http://www.infineon.com/; ComponentLink2Description: Datasheet; ComponentLink2URL: http://www.infineon.com/dgdl/BTS134_DS_13.pdf?folderId=db3a3043163797a6011667aa084c0e01&fileId=db3a3043163797a6011667bdc0940e62&location=en.Products.Automotive_ICs.Smart_High-_and_Low-Side_Switches.HITFET___TEMPFET__-_Smart_Low-Side_Switches.DATASHEET.BTS134_DS_13.pdf; ComponentLink3Description: Package Specification; ComponentLink3URL: http://www.infineon.com/dgdl/BTS142_DS_13.pdf?folderId=db3a3043163797a6011667aa084c0e01&fileId=db3a3043163797a6011667ac98be0e02&location=en.Products.Automotive_ICs.Smart_High-_and_Low-Side_Switches.HITFET___TEMPFET__-_Smart_Low-Side_Switches.DATASHEET.BTS142_DS_13.pdf
footprint INF-PG-TO252-3-11_N (DPAK, 3-Leads, Body 6.5x6.12mm, Pitch 2.28mm, IPC Medium Density)
footprint INF-PG-TO252-3-11_L (DPAK, 3-Leads, Body 6.5x6.12mm, Pitch 2.28mm, IPC High Density)
footprint INF-PG-TO252-3-11_M (DPAK, 3-Leads, Body 6.5x6.12mm, Pitch 2.28mm, IPC Low Density)
pins: 1 IN (in), 2 DRAIN (power), 3 SOURCE (power)

## BTS141
designator U?
Smart Low-Side Power Switch HITFET, 60 V VDS, 12 A ID, -40 to 150 degC, PG-TO220-3-1, Tube, Green; Manufacturer: Infineon; PartNumber: BTS141; Channels: 1; Green: TRUE; ID: 12 A; ID(nom): 5.1 A; ID(lim) (min): 25 A; ISC (max): 100 A; Ptot (max): 149 W; RDS (on)(max): 30 mOhm; ton (max): 100 us; toff (max): 170 us; VDS (max): 60 V; DatasheetVersion: Rev. 1.4; PackageVersion: Jul-12; PackageReference: PG-TO220-3-1; PackageDescription: 3-Pin Plastic (Green) Transistor Single Outline Package, 10 x 9.25 mm Body, 2.54 mm Pitch; Supplier 1: Mouser; Supplier Part Number 1: 726-BTS141; Supplier 2: Digi-Key; Supplier Part Number 2: BTS141IN-ND; Group: HITFET; Halogen-free: FALSE; Packing: Tube; Mounting Technology: Through Hole; ComponentLink1Description: Manufacturer URL; ComponentLink1URL: http://www.infineon.com/; ComponentLink2Description: Datasheet; ComponentLink2URL: http://www.infineon.com/dgdl/BTS141_DS_14.pdf?folderId=db3a30431400ef68011421b54e2e0564&fileId=db3a30433a747525013ac0050af054df&location=en.Products.Automotive_ICs.Smart_High-_and_Low-Side_Switches.HITFET___TEMPFET__-_Smart_Low-Side_Switches.DATASHEET.BTS141_DS_14.pdf; ComponentLink3Description: Package Specification; ComponentLink3URL: http://www.infineon.com/dgdl/BTS117_DS_14.pdf?folderId=db3a30431400ef68011421b54e2e0564&fileId=db3a30433a747525013abff8302d549c&location=en.Products.Automotive_ICs.Smart_High-_and_Low-Side_Switches.HITFET___TEMPFET__-_Smart_Low-Side_Switches.DATASHEET.BTS117_DS_14.pdf
footprint INF-PG-TO220-3-1 (FM, 3-Leads, Body 10x4.4mm, Pitch 2.54mm)
pins: 1 IN (in), 2 DRAIN (power), 3 SOURCE (power)